# Altium footprint library Capacitor TH.PcbLib: 5 footprints
Each footprint in its own frame and in the unit in brackets; x right, y up, seen from the top. Pads: shape width x height; smd on the part's side, far side on the other; paste and mask are expansions set on the pad; w line width, h text height; cw(c..) or ccw(c..) is an arc to the next point about the centre after c.
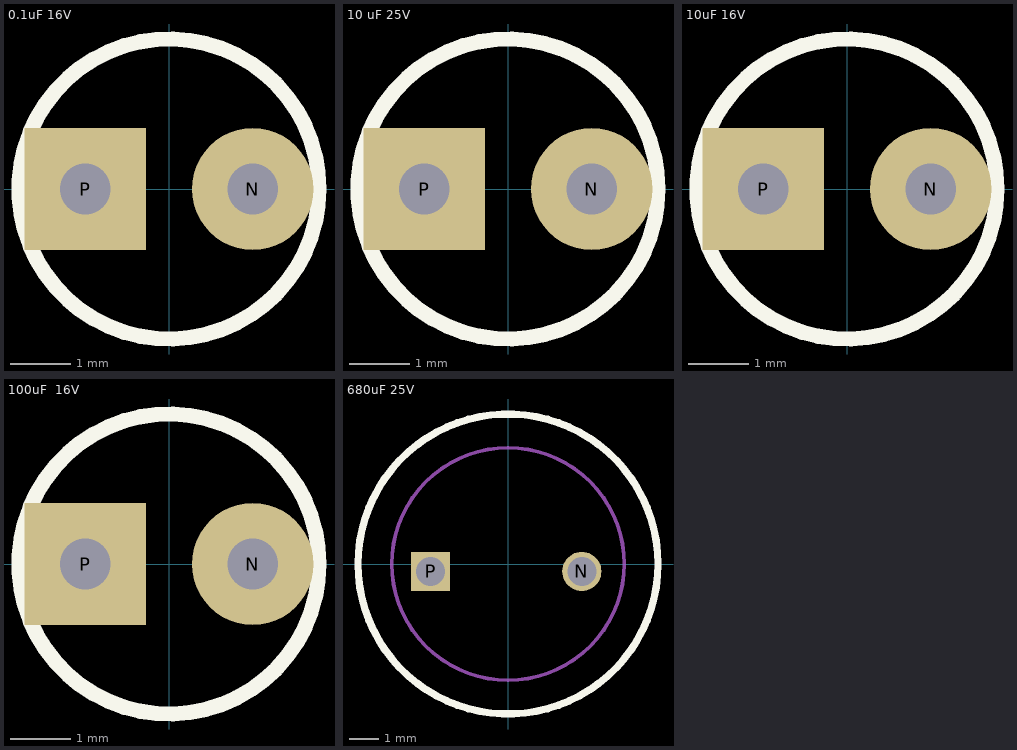
[diagram p0: the footprints below, top view; thin cyan lines are the x and y axes]

## 0.1uF 16V [mil] "0.1uF 16V"
pads (2):
  round 80 hole 33.46: N(55,0)
  rect 80x80 hole 33.46: P(-55,0)
Top Overlay:
  circle w10: c0,0 r98.5
3D body "User Library-CE_R200_D200_H460.STEP": height 460.63, standoff -192.91, extent -109.84,-99.84 109.84,99.84

## 10 uF 25V [mil] "10 uF 25V"
pads (2):
  round 80 hole 33.46: N(55,0)
  rect 80x80 hole 33.46: P(-55,0)
Top Overlay:
  circle w10: c0,0 r98.5
3D body "User Library-CE_R200_D200_H460.STEP": height 460.63, standoff -192.91, extent -109.84,-99.84 109.84,99.84

## 10uF 16V [mil] "10uF 16V"
pads (2):
  round 80 hole 33.46: N(55,0)
  rect 80x80 hole 33.46: P(-55,0)
Top Overlay:
  circle w10: c0,0 r98.5
3D body "User Library-CE_R200_D200_H460.STEP": height 460.63, standoff -192.91, extent -109.84,-99.84 109.84,99.84

## 100uF  16V [mil] "100uF  16V"
pads (2):
  round 80 hole 33.46: N(55,0)
  rect 80x80 hole 33.46: P(-55,0)
Top Overlay:
  circle w10: c0,0 r98.5
3D body "User Library-CE_R200_D200_H460.STEP": height 460.63, standoff -192.91, extent -109.84,-99.84 109.84,99.84

## 680uF 25V [mm] "680uF 25V"
pads (2):
  round 1.35 hole 1: N(2.54,-0.254)
  rect 1.35x1.35 hole 1: P(-2.667,-0.254)
Top Overlay:
  circle w0.254: c0,0 r5.162
Mechanical 13:
  circle w0.127: c0,0 r4
3D body "User Library-CE_R200_D400_H800.STEP": height 20.32, standoff -2.9, extent -5.207,-5.324 4.953,4.815